# EAGLE library part H2019NL (library ell-i)
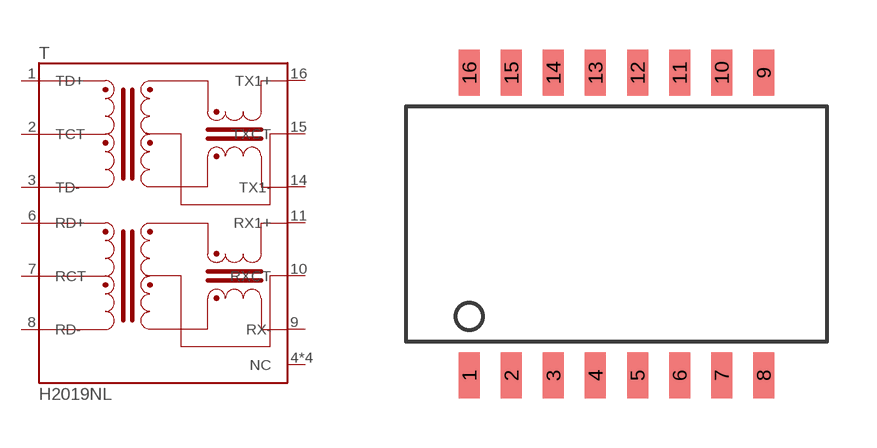
[diagram p3: symbol with the pads of H2019NL; footprint H2019NL]

Designator prefix T

## H2019NL  [H2019NL]
1  TD+  in
2  TCT  in
3  TD-  in
4  NC  in
5  NC  in
6  RD+  in
7  RCT  in
8  RD-  in
9  RX-
10  RXCT
11  RX1+
12  NC  in
13  NC  in
14  TX1-
15  TXCT
16  TX1+

## Footprint H2019NL (pad centres in mm)
smd 0.635 x 1.397: 1 -4.445,-4.572; 2 -3.175,-4.572; 3 -1.905,-4.572; 4 -0.635,-4.572; 5 0.635,-4.572; 6 1.905,-4.572; 7 3.175,-4.572; 8 4.445,-4.572; 9 4.445,4.572; 10 3.175,4.572; 11 1.905,4.572; 12 0.635,4.572; 13 -0.635,4.572; 14 -1.905,4.572; 15 -3.175,4.572; 16 -4.445,4.572